# Altium schematic symbol library GIGABLOX_NANO_SWITCH_REVA_MODULE.SchLib: 1 symbol
Pins are listed as number, name and electrical type; pins without a type are passive.

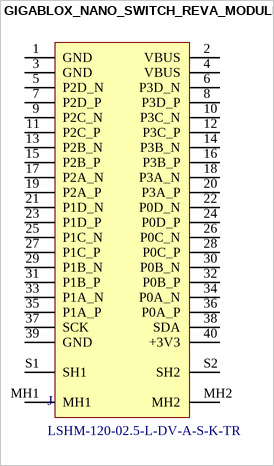
[diagram p0: symbol GIGABLOX_NANO_SWITCH_REVA_MODULE]

## GIGABLOX_NANO_SWITCH_REVA_MODULE
designator J, comment LSHM-120-02.5-L-DV-A-S-K-TR
CONN SELF-MATE 40POS SMD GOLD
footprint GIGABLOX_NANO_SWITCH_REVA_MODULE
pins: 1 GND (power), 2 VBUS (power), 3 GND (power), 4 VBUS (power), 5 P2D_N, 6 P3D_N, 7 P2D_P, 8 P3D_P, 9 P2C_N, 10 P3C_N, 11 P2C_P, 12 P3C_P, 13 P2B_N, 14 P3B_N, 15 P2B_P, 16 P3B_P, 17 P2A_N, 18 P3A_N, 19 P2A_P, 20 P3A_P, 21 P1D_N, 22 P0D_N, 23 P1D_P, 24 P0D_P, 25 P1C_N, 26 P0C_N, 27 P1C_P, 28 P0C_P, 29 P1B_N, 30 P0B_N, 31 P1B_P, 32 P0B_P, 33 P1A_N, 34 P0A_N, 35 P1A_P, 36 P0A_P, 37 SCK, 38 SDA, 39 GND (power), 40 +3V3, MH1, MH2, S1 SH1, S2 SH2